# Altium footprint library AC Voltage Sampling.PcbLib: 12 footprints
Each footprint in its own frame and in the unit in brackets; x right, y up, seen from the top. Pads: shape width x height; smd on the part's side, far side on the other; paste and mask are expansions set on the pad; w line width, h text height; cw(c..) or ccw(c..) is an arc to the next point about the centre after c.
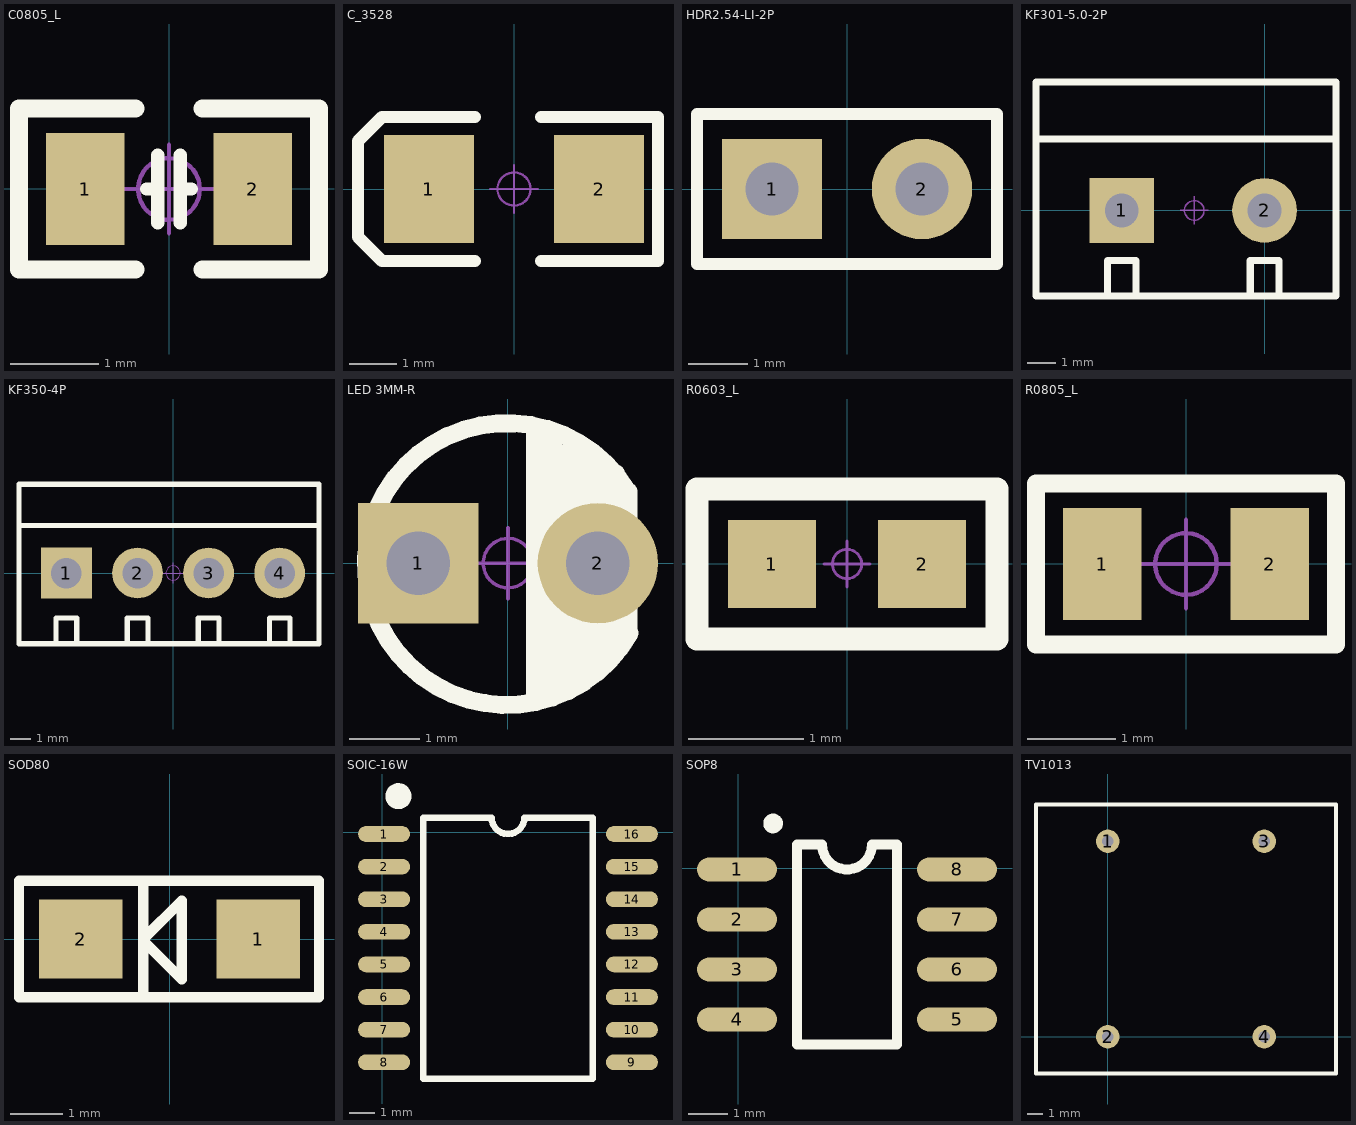
[diagram p0: the footprints below, top view; thin cyan lines are the x and y axes]

## C0805_L [mil] "无极性贴片电容"
height 19.68
pads (2):
  rect 35x50 smd: 1(-37.4,0) 2(37.4,0)
Top Overlay:
  lines w6: -10,0 -5,0 ; -5,-15 -5,15 ; 5,-15 5,15 ; 5,0 10,0
  lines w8: -15,-36 -66.93,-36 -66.93,36 -15,36 ; 15,-36 66.93,-36 66.93,36 15,36
Mechanical 15:
  circle w1.97: c0,0 r13.78
  circle w1.97: c0,0 r13.78
  lines w1.97: -19.68,0 19.69,0 -19.68,0 ; 0,-19.68 0,19.68 0,-19.68
3D body "C 0805.STEP": height 22.08, standoff 1.61, extent -39.37,-24.01 39.37,24.02

## C_3528 [mil] "B型贴片钽电容 长3.5mm，宽2.8mm，厚1.9mm"
pads (2):
  rect 75x90 smd: 1(-70.87,-0.01) 2(70.86,-0.01)
Top Overlay:
  lines w10: -32.51,-60 -110,-60 -130,-40 -130,40 -110,60 -32.51,60 ; 22.49,-60 120,-60 120,60 22.49,60
Mechanical 15:
  circle w1.97: c0,0 r13.78
  lines w1.97: -19.68,0 19.68,0 ; 0,-19.68 0,19.68
3D body "cd_b_3528_.STEP": height 75.84, standoff 1, extent -68.91,-55.11 68.92,55.12

## HDR2.54-LI-2P [mm] "排针，2脚 封装库来自淘宝卖家 ID：黄晶宝石"
height 11
pads (2):
  rect 1.7x1.7 hole 0.9: 1(-1.27,0)
  round 1.7 hole 0.9: 2(1.27,0)
Top Overlay:
  lines w0.2: -2.54,-1.27 -2.54,1.27 2.54,1.27 2.54,-1.27 -2.54,-1.27
3D body "HDR2.54-1P.STEP": height 2.54, standoff -8.96, extent -2.54,-1.27 0,1.27
3D body "HDR2.54-1P.STEP": height 2.54, standoff -8.96, extent 0,-1.27 2.54,1.27

## KF301-5.0-2P [mm] "可拼接端子/6A"
pads (2):
  rect 2.3x2.3 hole 1.2: 1(-5.08,0)
  round 2.3 hole 1.2: 2(0,0)
Top Overlay:
  lines w0.254: -8.128,2.54 2.54,2.54 ; -5.588,-3.048 -5.588,-1.778 -4.572,-1.778 -4.572,-3.048 ; -0.508,-3.048 -0.508,-1.778 0.508,-1.778 0.508,-3.048 ; -8.128,-3.048 -8.128,4.572 2.54,4.572 2.54,-3.048 -8.128,-3.048
Mechanical 15:
  circle w0.05: c-2.5,0 r0.35
  lines w0.05: -3,0 -2,0 ; -2.5,-0.5 -2.5,0.5
3D body "KF301.STEP": height 3.29, standoff -10.51, extent -2.95,-3 2.55,4.6
3D body "KF301.STEP": height 3.29, standoff -10.51, extent -7.95,-3 -2.45,4.6

## KF350-4P [mm] "可拼接端子/10A"
pads (4):
  rect 2.5x2.5 hole 1.5: 1(-5.25,0)
  round 2.5 hole 1.5: 2(-1.75,0) 3(1.75,0) 4(5.25,0)
Top Overlay:
  lines w0.254: -7.587,2.337 7.186,2.337 ; -5.758,-3.48 -5.758,-2.21 -4.742,-2.21 -4.742,-3.48 ; -2.258,-3.48 -2.258,-2.21 -1.242,-2.21 -1.242,-3.48 ; 1.242,-3.48 1.242,-2.21 2.258,-2.21 2.258,-3.48 ; 4.742,-3.48 4.742,-2.21 5.758,-2.21 5.758,-3.48 ; -7.587,-3.48 7.186,-3.48 7.186,4.369 -7.587,4.369 -7.587,-3.48
Mechanical 15:
  circle w0.05: c0,0 r0.35
  lines w0.05: -0.5,0 0.5,0 ; 0,-0.5 0,0.5
3D body "KF350.STEP": height 10.1, standoff -3.7, extent -7.4,-3.3 -3.5,4.2
3D body "KF350.STEP": height 10.1, standoff -3.7, extent -3.9,-3.3 0,4.2
3D body "KF350.STEP": height 10.1, standoff -3.7, extent -0.4,-3.3 3.5,4.2
3D body "KF350.STEP": height 10.1, standoff -3.7, extent 3.1,-3.3 7,4.2

## LED 3MM-R [mm] "红色3mm直插LED"
height 6.35
pads (2):
  rect 1.7x1.7 hole 0.9: 1(-1.27,0)
  round 1.7 hole 0.9: 2(1.27,0)
Top Overlay:
  lines w0.254: 0.381,-1.905 0.381,1.905 ; 0.635,-1.778 0.635,1.778 ; 1.016,-1.651 1.016,1.524 ; 1.524,1.27 1.524,-1.27 1.27,-1.524 1.27,1.397 1.143,1.524 1.016,1.524 ; 1.685,1.025 ccw(c-0.016,-0.012) 1.72,-0.987 ; 1.702,-0.965 1.702,1.016 ; 0.889,1.651 0.889,-1.778 0.889,1.651 ; 0.889,1.651 1.016,1.524
Mechanical 15:
  circle w0.05: c0,0 r0.35
  lines w0.05: -0.5,0 0.5,0 ; 0,-0.5 0,0.5
3D body "LED 3mm-玻璃罩.ST": height 5.55, standoff 0.05, extent -1.95,-1.95 1.638,1.95
3D body "LED_3MM-R.STEP": height 3.01, standoff -3.45, extent -1.639,-0.85 1.603,0.827

## R0603_L [mil] "1/10W贴片电阻"
height 433.07
pads (2):
  rect 30x30 smd: 1(-25.59,0) 2(25.59,0)
Top Overlay:
  lines w8: -51.18,-25.59 51.18,-25.59 51.18,25.59 -51.18,25.59 -51.18,-25.59
Mechanical 15:
  circle w1: c0,0 r5
  lines w1: -7.87,0 7.87,0 ; 0,-7.87 0,7.87
3D body "R0603.STEP": height 15.79, standoff 0, extent -31.49,-15.75 31.5,15.75

## R0805_L [mil] "1/8W贴片电阻"
height 433.07
pads (2):
  rect 35x50 smd: 1(-37.4,0) 2(37.4,0)
Top Overlay:
  lines w8: -66.93,-36 -66.93,36 66.93,36 66.93,-36 -66.93,-36
Mechanical 15:
  circle w1.97: c0,0 r13.78
  lines w1.97: -19.68,0 19.68,0 ; 0,-19.68 0,19.68
3D body "R0805.STEP": height 19.72, standoff 0, extent -39.37,-24.6 39.37,24.61

## SOD80 [mm] "LL34"
pads (2):
  rect 1.6x1.524 smd: 1(1.7,0) 2(-1.7,0)
Top Overlay:
  lines w0.2: -2.888,1.092 -2.888,-1.118 2.868,-1.118 2.868,1.067 ; -2.888,1.118 2.868,1.118 ; -0.5,-1.118 -0.5,1.118 ; -0.5,-0.035 -0.5,0 0.237,0.737 0.237,-0.772 -0.5,-0.035
3D body "SOD-80.STEP": height 1.5, standoff 0, extent -1.828,-0.75 1.672,0.75

## SOIC-16W [mil]
pads (16):
  oval 80x24 smd: 1(3,-3) 2(3,-53) 3(3,-103) 4(3,-153) 5(3,-203) 6(3,-253) 7(3,-303) 8(3,-353) 9(383,-353) 10(383,-303) 11(383,-253) 12(383,-203) 13(383,-153) 14(383,-103) 15(383,-53) 16(383,-3)
Top Overlay:
  circle w20: c25,55 r10
  lines w10: 167.72,22 63,22 63,-378 323,-378 323,22 218,22 cw(c193,22) 168,22
3D body "SOP16W.STEP": height 106.3, standoff 0.03, extent -6.01,-379.92 399.73,25.59

## SOP8 [mil]
pads (8):
  oval 80x24 smd: 1(-1,-1) 2(-1,-51) 3(-1,-101) 4(-1,-151) 5(219,-151) 6(219,-101) 7(219,-51) 8(219,-1)
Top Overlay:
  circle w9.84: c35.08,45 r4.92
  lines w10: 59,-176 59,24 84,24 ccw(c109,24) 134,24 159,24 159,-176 59,-176
3D body "SOP8.STEP": height 74.8, standoff 0.03, extent -11.92,-173.23 224.52,23.62

## TV1013 [mil]
height 433.07
pads (4):
  round 60 hole 30: 1(0,500) 2(0,0) 3(400,500) 4(400,0)
Top Overlay:
  lines w10: -183.86,-94.49 -183.86,594.49 583.86,594.49 583.86,-94.49 -183.86,-94.49
3D body: height 748.03, standoff 3.94, extent -185,-95 585,595